# Altium schematic symbol library SCH - MCU - SI LABS - SI LABS EFM32GG11B520F2048IQ100 100-PIN QFP 14X14.SchLib: 1 symbol
Pins are listed as number, name and electrical type; pins without a type are passive.

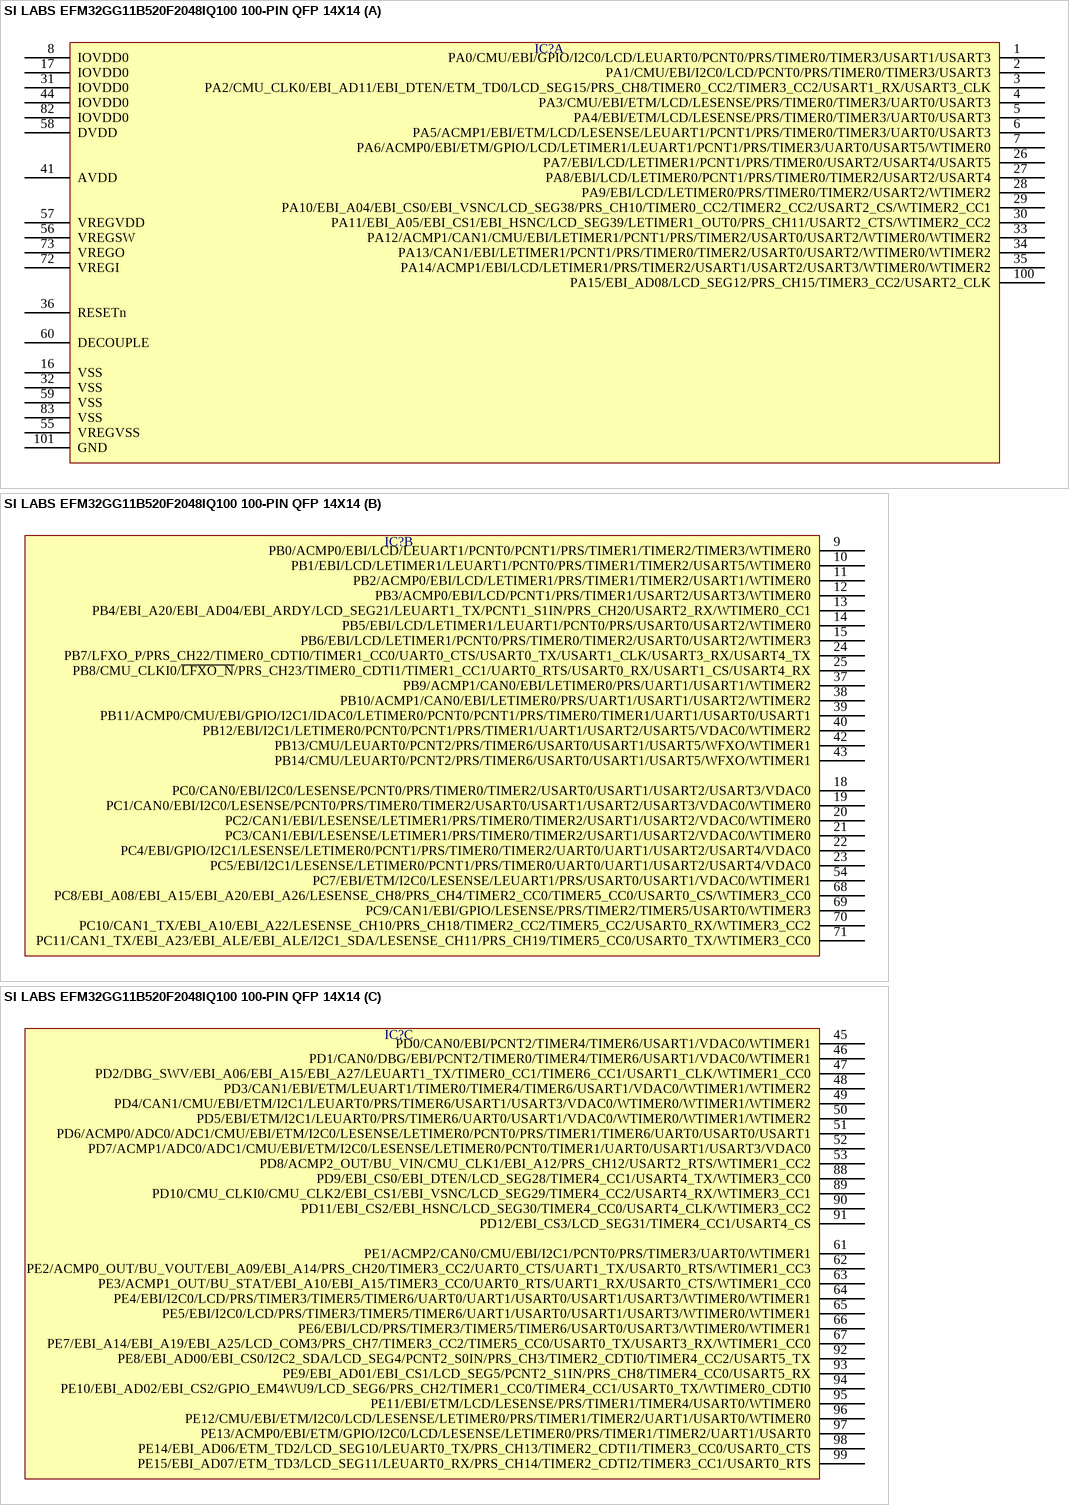
[diagram p0: symbol SI LABS EFM32GG11B520F2048IQ100 100-PIN QFP 14X14]

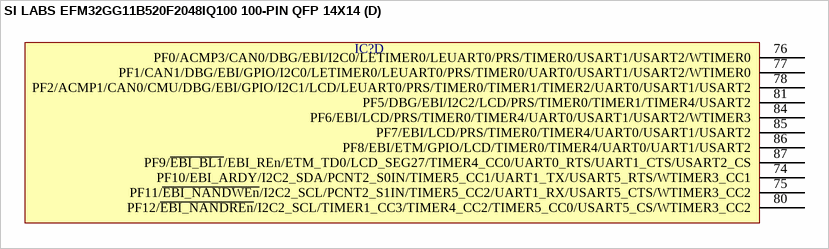
[diagram p1: symbol SI LABS EFM32GG11B520F2048IQ100 100-PIN QFP 14X14]

## SI LABS EFM32GG11B520F2048IQ100 100-PIN QFP 14X14
designator IC?  (value not drawn)
part A pins: 1 PA0/CMU/EBI/GPIO/I2C0/LCD/LEUART0/PCNT0/PRS/TIMER0/TIMER3/USART1/USART3, 2 PA1/CMU/EBI/I2C0/LCD/PCNT0/PRS/TIMER0/TIMER3/USART3, 3 PA2/CMU_CLK0/EBI_AD11/EBI_DTEN/ETM_TD0/LCD_SEG15/PRS_CH8/TIMER0_CC2/TIMER3_CC2/USART1_RX/USART3_CLK, 4 PA3/CMU/EBI/ETM/LCD/LESENSE/PRS/TIMER0/TIMER3/UART0/USART3, 5 PA4/EBI/ETM/LCD/LESENSE/PRS/TIMER0/TIMER3/UART0/USART3, 6 PA5/ACMP1/EBI/ETM/LCD/LESENSE/LEUART1/PCNT1/PRS/TIMER0/TIMER3/UART0/USART3, 7 PA6/ACMP0/EBI/ETM/GPIO/LCD/LETIMER1/LEUART1/PCNT1/PRS/TIMER3/UART0/USART5/WTIMER0, 8 IOVDD0, 16 VSS, 17 IOVDD0, 26 PA7/EBI/LCD/LETIMER1/PCNT1/PRS/TIMER0/USART2/USART4/USART5, 27 PA8/EBI/LCD/LETIMER0/PCNT1/PRS/TIMER0/TIMER2/USART2/USART4, 28 PA9/EBI/LCD/LETIMER0/PRS/TIMER0/TIMER2/USART2/WTIMER2, 29 PA10/EBI_A04/EBI_CS0/EBI_VSNC/LCD_SEG38/PRS_CH10/TIMER0_CC2/TIMER2_CC2/USART2_CS/WTIMER2_CC1, 30 PA11/EBI_A05/EBI_CS1/EBI_HSNC/LCD_SEG39/LETIMER1_OUT0/PRS_CH11/USART2_CTS/WTIMER2_CC2, 31 IOVDD0, 32 VSS, 33 PA12/ACMP1/CAN1/CMU/EBI/LETIMER1/PCNT1/PRS/TIMER2/USART0/USART2/WTIMER0/WTIMER2, 34 PA13/CAN1/EBI/LETIMER1/PCNT1/PRS/TIMER0/TIMER2/USART0/USART2/WTIMER0/WTIMER2, 35 PA14/ACMP1/EBI/LCD/LETIMER1/PRS/TIMER2/USART1/USART2/USART3/WTIMER0/WTIMER2, 36 RESETn, 41 AVDD, 44 IOVDD0, 55 VREGVSS, 56 VREGSW, 57 VREGVDD, 58 DVDD, 59 VSS, 60 DECOUPLE, 72 VREGI, 73 VREGO, 82 IOVDD0, 83 VSS, 100 PA15/EBI_AD08/LCD_SEG12/PRS_CH15/TIMER3_CC2/USART2_CLK, 101 GND
part B pins: 9 PB0/ACMP0/EBI/LCD/LEUART1/PCNT0/PCNT1/PRS/TIMER1/TIMER2/TIMER3/WTIMER0, 10 PB1/EBI/LCD/LETIMER1/LEUART1/PCNT0/PRS/TIMER1/TIMER2/USART5/WTIMER0, 11 PB2/ACMP0/EBI/LCD/LETIMER1/PRS/TIMER1/TIMER2/USART1/WTIMER0, 12 PB3/ACMP0/EBI/LCD/PCNT1/PRS/TIMER1/USART2/USART3/WTIMER0, 13 PB4/EBI_A20/EBI_AD04/EBI_ARDY/LCD_SEG21/LEUART1_TX/PCNT1_S1IN/PRS_CH20/USART2_RX/WTIMER0_CC1, 14 PB5/EBI/LCD/LETIMER1/LEUART1/PCNT0/PRS/USART0/USART2/WTIMER0, 15 PB6/EBI/LCD/LETIMER1/PCNT0/PRS/TIMER0/TIMER2/USART0/USART2/WTIMER3, 18 PC0/CAN0/EBI/I2C0/LESENSE/PCNT0/PRS/TIMER0/TIMER2/USART0/USART1/USART2/USART3/VDAC0, 19 PC1/CAN0/EBI/I2C0/LESENSE/PCNT0/PRS/TIMER0/TIMER2/USART0/USART1/USART2/USART3/VDAC0/WTIMER0, 20 PC2/CAN1/EBI/LESENSE/LETIMER1/PRS/TIMER0/TIMER2/USART1/USART2/VDAC0/WTIMER0, 21 PC3/CAN1/EBI/LESENSE/LETIMER1/PRS/TIMER0/TIMER2/USART1/USART2/VDAC0/WTIMER0, 22 PC4/EBI/GPIO/I2C1/LESENSE/LETIMER0/PCNT1/PRS/TIMER0/TIMER2/UART0/UART1/USART2/USART4/VDAC0, 23 PC5/EBI/I2C1/LESENSE/LETIMER0/PCNT1/PRS/TIMER0/UART0/UART1/USART2/USART4/VDAC0, 24 PB7/LFXO_P/PRS_CH22/TIMER0_CDTI0/TIMER1_CC0/UART0_CTS/USART0_TX/USART1_CLK/USART3_RX/USART4_TX, 25 PB8/CMU_CLKI0/~{LFXO_N}/PRS_CH23/TIMER0_CDTI1/TIMER1_CC1/UART0_RTS/USART0_RX/USART1_CS/USART4_RX, 37 PB9/ACMP1/CAN0/EBI/LETIMER0/PRS/UART1/USART1/WTIMER2, 38 PB10/ACMP1/CAN0/EBI/LETIMER0/PRS/UART1/USART1/USART2/WTIMER2, 39 PB11/ACMP0/CMU/EBI/GPIO/I2C1/IDAC0/LETIMER0/PCNT0/PCNT1/PRS/TIMER0/TIMER1/UART1/USART0/USART1, 40 PB12/EBI/I2C1/LETIMER0/PCNT0/PCNT1/PRS/TIMER1/UART1/USART2/USART5/VDAC0/WTIMER2, 42 PB13/CMU/LEUART0/PCNT2/PRS/TIMER6/USART0/USART1/USART5/WFXO/WTIMER1, 43 PB14/CMU/LEUART0/PCNT2/PRS/TIMER6/USART0/USART1/USART5/WFXO/WTIMER1, 54 PC7/EBI/ETM/I2C0/LESENSE/LEUART1/PRS/USART0/USART1/VDAC0/WTIMER1, 68 PC8/EBI_A08/EBI_A15/EBI_A20/EBI_A26/LESENSE_CH8/PRS_CH4/TIMER2_CC0/TIMER5_CC0/USART0_CS/WTIMER3_CC0, 69 PC9/CAN1/EBI/GPIO/LESENSE/PRS/TIMER2/TIMER5/USART0/WTIMER3, 70 PC10/CAN1_TX/EBI_A10/EBI_A22/LESENSE_CH10/PRS_CH18/TIMER2_CC2/TIMER5_CC2/USART0_RX/WTIMER3_CC2, 71 PC11/CAN1_TX/EBI_A23/EBI_ALE/EBI_ALE/I2C1_SDA/LESENSE_CH11/PRS_CH19/TIMER5_CC0/USART0_TX/WTIMER3_CC0
part C pins: 45 PD0/CAN0/EBI/PCNT2/TIMER4/TIMER6/USART1/VDAC0/WTIMER1, 46 PD1/CAN0/DBG/EBI/PCNT2/TIMER0/TIMER4/TIMER6/USART1/VDAC0/WTIMER1, 47 PD2/DBG_SWV/EBI_A06/EBI_A15/EBI_A27/LEUART1_TX/TIMER0_CC1/TIMER6_CC1/USART1_CLK/WTIMER1_CC0, 48 PD3/CAN1/EBI/ETM/LEUART1/TIMER0/TIMER4/TIMER6/USART1/VDAC0/WTIMER1/WTIMER2, 49 PD4/CAN1/CMU/EBI/ETM/I2C1/LEUART0/PRS/TIMER6/USART1/USART3/VDAC0/WTIMER0/WTIMER1/WTIMER2, 50 PD5/EBI/ETM/I2C1/LEUART0/PRS/TIMER6/UART0/USART1/VDAC0/WTIMER0/WTIMER1/WTIMER2, 51 PD6/ACMP0/ADC0/ADC1/CMU/EBI/ETM/I2C0/LESENSE/LETIMER0/PCNT0/PRS/TIMER1/TIMER6/UART0/USART0/USART1, 52 PD7/ACMP1/ADC0/ADC1/CMU/EBI/ETM/I2C0/LESENSE/LETIMER0/PCNT0/TIMER1/UART0/USART1/USART3/VDAC0, 53 PD8/ACMP2_OUT/BU_VIN/CMU_CLK1/EBI_A12/PRS_CH12/USART2_RTS/WTIMER1_CC2, 61 PE1/ACMP2/CAN0/CMU/EBI/I2C1/PCNT0/PRS/TIMER3/UART0/WTIMER1, 62 PE2/ACMP0_OUT/BU_VOUT/EBI_A09/EBI_A14/PRS_CH20/TIMER3_CC2/UART0_CTS/UART1_TX/USART0_RTS/WTIMER1_CC3, 63 PE3/ACMP1_OUT/BU_STAT/EBI_A10/EBI_A15/TIMER3_CC0/UART0_RTS/UART1_RX/USART0_CTS/WTIMER1_CC0, 64 PE4/EBI/I2C0/LCD/PRS/TIMER3/TIMER5/TIMER6/UART0/UART1/USART0/USART1/USART3/WTIMER0/WTIMER1, 65 PE5/EBI/I2C0/LCD/PRS/TIMER3/TIMER5/TIMER6/UART1/USART0/USART1/USART3/WTIMER0/WTIMER1, 66 PE6/EBI/LCD/PRS/TIMER3/TIMER5/TIMER6/USART0/USART3/WTIMER0/WTIMER1, 67 PE7/EBI_A14/EBI_A19/EBI_A25/LCD_COM3/PRS_CH7/TIMER3_CC2/TIMER5_CC0/USART0_TX/USART3_RX/WTIMER1_CC0, 88 PD9/EBI_CS0/EBI_DTEN/LCD_SEG28/TIMER4_CC1/USART4_TX/WTIMER3_CC0, 89 PD10/CMU_CLKI0/CMU_CLK2/EBI_CS1/EBI_VSNC/LCD_SEG29/TIMER4_CC2/USART4_RX/WTIMER3_CC1, 90 PD11/EBI_CS2/EBI_HSNC/LCD_SEG30/TIMER4_CC0/USART4_CLK/WTIMER3_CC2, 91 PD12/EBI_CS3/LCD_SEG31/TIMER4_CC1/USART4_CS, 92 PE8/EBI_AD00/EBI_CS0/I2C2_SDA/LCD_SEG4/PCNT2_S0IN/PRS_CH3/TIMER2_CDTI0/TIMER4_CC2/USART5_TX, 93 PE9/EBI_AD01/EBI_CS1/LCD_SEG5/PCNT2_S1IN/PRS_CH8/TIMER4_CC0/USART5_RX, 94 PE10/EBI_AD02/EBI_CS2/GPIO_EM4WU9/LCD_SEG6/PRS_CH2/TIMER1_CC0/TIMER4_CC1/USART0_TX/WTIMER0_CDTI0, 95 PE11/EBI/ETM/LCD/LESENSE/PRS/TIMER1/TIMER4/USART0/WTIMER0, 96 PE12/CMU/EBI/ETM/I2C0/LCD/LESENSE/LETIMER0/PRS/TIMER1/TIMER2/UART1/USART0/WTIMER0, 97 PE13/ACMP0/EBI/ETM/GPIO/I2C0/LCD/LESENSE/LETIMER0/PRS/TIMER1/TIMER2/UART1/USART0, 98 PE14/EBI_AD06/ETM_TD2/LCD_SEG10/LEUART0_TX/PRS_CH13/TIMER2_CDTI1/TIMER3_CC0/USART0_CTS, 99 PE15/EBI_AD07/ETM_TD3/LCD_SEG11/LEUART0_RX/PRS_CH14/TIMER2_CDTI2/TIMER3_CC1/USART0_RTS
part D pins: 74 PF10/EBI_ARDY/I2C2_SDA/PCNT2_S0IN/TIMER5_CC1/UART1_TX/USART5_RTS/WTIMER3_CC1, 75 PF11/~{EBI_NANDWEn}/I2C2_SCL/PCNT2_S1IN/TIMER5_CC2/UART1_RX/USART5_CTS/WTIMER3_CC2, 76 PF0/ACMP3/CAN0/DBG/EBI/I2C0/LETIMER0/LEUART0/PRS/TIMER0/USART1/USART2/WTIMER0, 77 PF1/CAN1/DBG/EBI/GPIO/I2C0/LETIMER0/LEUART0/PRS/TIMER0/UART0/USART1/USART2/WTIMER0, 78 PF2/ACMP1/CAN0/CMU/DBG/EBI/GPIO/I2C1/LCD/LEUART0/PRS/TIMER0/TIMER1/TIMER2/UART0/USART1/USART2, 80 PF12/~{EBI_NANDREn}/I2C2_SCL/TIMER1_CC3/TIMER4_CC2/TIMER5_CC0/USART5_CS/WTIMER3_CC2, 81 PF5/DBG/EBI/I2C2/LCD/PRS/TIMER0/TIMER1/TIMER4/USART2, 84 PF6/EBI/LCD/PRS/TIMER0/TIMER4/UART0/USART1/USART2/WTIMER3, 85 PF7/EBI/LCD/PRS/TIMER0/TIMER4/UART0/USART1/USART2, 86 PF8/EBI/ETM/GPIO/LCD/TIMER0/TIMER4/UART0/UART1/USART2, 87 PF9/~{EBI_BL1}/EBI_REn/ETM_TD0/LCD_SEG27/TIMER4_CC0/UART0_RTS/UART1_CTS/USART2_CS